# EAGLE library part POT-STEREO (library r)
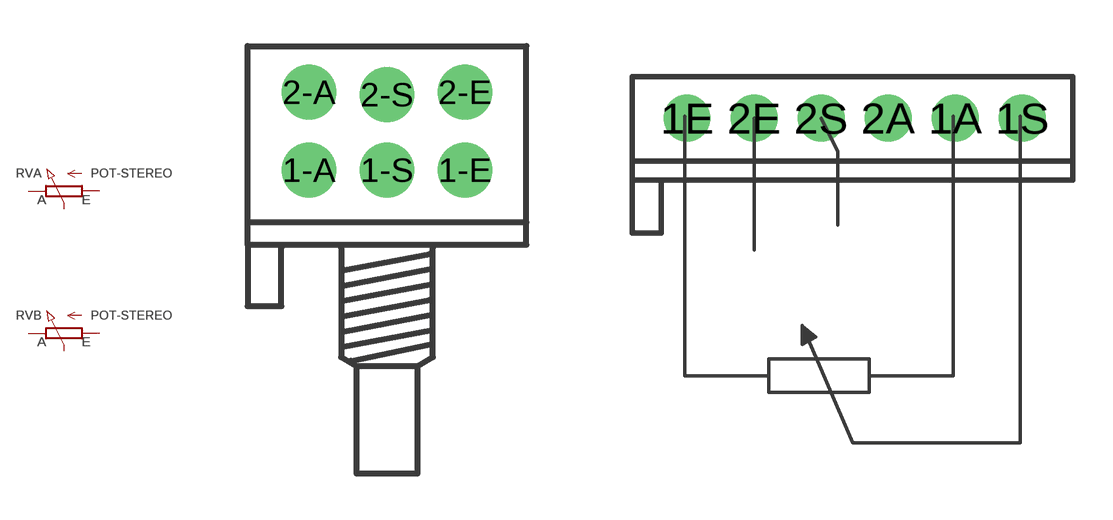
[diagram p1: symbol with the pads of POT-STEREO-2X3; footprints POT-STEREO-2X3, POT-STEREO-1X6-V]

Designator prefix RV; gates A=POT-H B=POT-H

## POT-STEREO  [POT-STEREO-2X3]
1-A  A:A  pas
1-E  A:E  pas
1-S  A:S  pas
2-A  B:A  pas
2-E  B:E  pas
2-S  B:S  pas

## POT-STEREO-1X6-V  [POT-STEREO-1X6-V]
1A  A:A  pas
1E  A:E  pas
1S  A:S  pas
2A  B:A  pas
2E  B:E  pas
2S  B:S  pas

## POT-STEREO-1X6  [POT-STEREO-1X6]
Pads as for POT-STEREO-1X6-V

## POT-STEREO2X3P  [CONN-2X3P]
1  A:A  pas
2  A:S  pas
3  A:E  pas
4  B:A  pas
5  B:S  pas
6  B:E  pas

## Footprint POT-STEREO-2X3 (pad centres in mm)
drill 0.9 pad 1.778: 1-A -2.54,-2.54; 1-E 2.54,-2.54; 1-S 0,-2.54; 2-A -2.54,0; 2-E 2.54,0; 2-S 0,-0.08

## Footprint POT-STEREO-1X6-V (pad centres in mm)
drill 0.9 pad 1.778: 1A 10.16,0; 1E 0,0; 1S 12.7,0; 2A 7.62,0; 2E 2.54,0; 2S 5.08,0

## Footprint POT-STEREO-1X6 (pad centres in mm)
drill 0.9 pad 1.778: 1A -3.81,2.54; 1E 6.35,2.54; 1S -6.35,2.54; 2A -1.27,2.54; 2E 3.81,2.54; 2S 1.27,2.54

## Footprint CONN-2X3P (pad centres in mm)
drill 0.9 pad 1.778 square: 1 -2.54,-1.27
drill 0.9 pad 1.778 octagon: 2 0,-1.27; 3 2.54,-1.27; 4 -2.54,1.27; 5 0,1.27; 6 2.54,1.27